# EAGLE library part STCS2A (library custom-devices)
2 A max. constant current LED driver
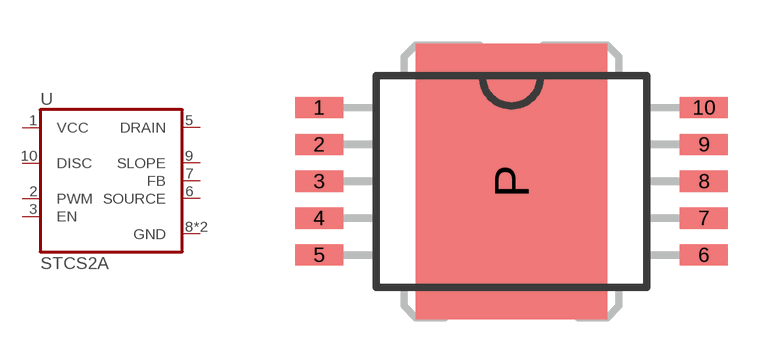
[diagram p40: symbol with the pads of POWER-SO10; footprint POWER-SO10]

Designator prefix U

## STCS2A (DIGI-KEY: 497-6917-1-ND; MOUSER: 511-STCS2ASPR; TEMPERATURE: -40°C to 150°C)  [POWER-SO10]
1  VCC
2  PWM
3  EN
5  DRAIN
6  SOURCE
7  FB
8  GND
9  SLOPE
10  DISC
P  GND

## Footprint POWER-SO10 (pad centres in mm)
Power SO-10 http://eu.st.com/stonline/ 3732.pdf and 5691.pdf
smd 1.65 x 0.73: 1 -6.625,2.54; 2 -6.625,1.27; 3 -6.625,0; 4 -6.625,-1.27; 5 -6.625,-2.54; 6 6.625,-2.54; 7 6.625,-1.27; 8 6.625,0; 9 6.625,1.27; 10 6.625,2.54
smd 6.604 x 9.5: P 0,0